# EAGLE library part DPDT_FOOTSWITCH (library switches)
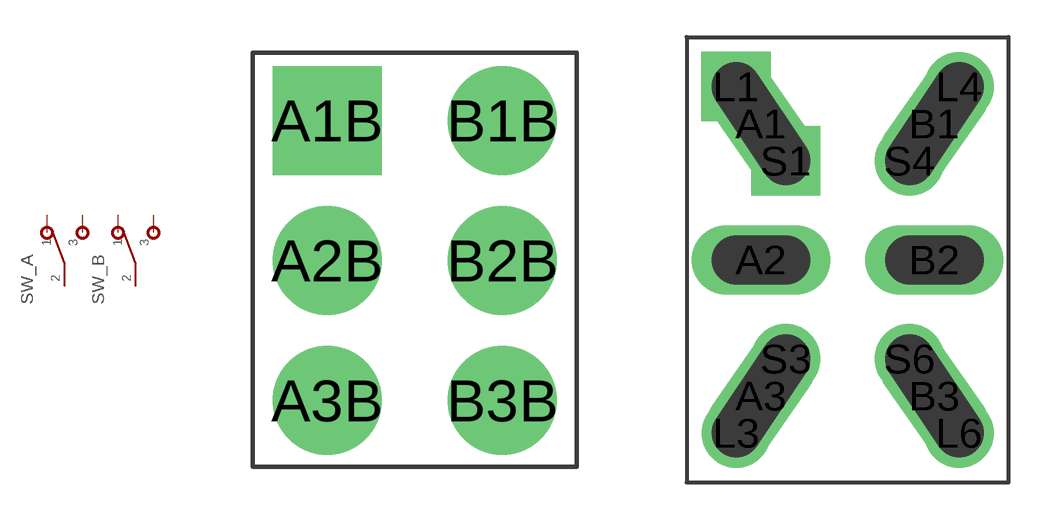
[diagram p8: symbol with the pads of DPDT_FSW2; footprints DPDT_FSW2, DPDT_FSW3]

Designator prefix SW; gates _A=SPDT _B=SPDT

## DPDT_FOOTSWITCHDPDT2  [DPDT_FSW2]
A1B  _A:1  pas
A2B  _A:2  pas
A3B  _A:3  pas
B1B  _B:1  pas
B2B  _B:2  pas
B3B  _B:3  pas

## DPDT_FOOTSWITCHDPDT3  [DPDT_FSW3]
A1  _A:1  pas
A2  _A:2  pas
A3  _A:3  pas
B1  _B:1  pas
B2  _B:2  pas
B3  _B:3  pas

## DPDT_FOOTSWITCH  [DPDT_FSW1]
Pads as for DPDT_FSW3

## Footprint DPDT_FSW2 (pad centres in mm)
drill 2.1 square: A1B -2.5,4
drill 2.1: A2B -2.5,0; A3B -2.5,-4; B1B 2.5,4; B2B 2.5,0; B3B 2.5,-4

## Footprint DPDT_FSW3 (pad centres in mm)
drill 0.25 pad 2.8 long: A1 -3.5,5.5; A2 -3.5,0; A3 -3.5,-5.5; B1 3.5,5.5; B2 3.5,0; B3 3.5,-5.5
drill 1 pad 2.8 square: L1 -4.5,7; S1 -2.5,4
drill 1 pad 2.8: L3 -4.5,-7; L4 4.5,7; L6 4.5,-7; S3 -2.5,-4; S4 2.5,4; S6 2.5,-4

## Footprint DPDT_FSW1 (pad centres in mm)
drill 2 square: A1 -4.5,7
drill 2: A2 -4.5,0; A3 -4.5,-7; B1 4.5,7; B2 4.5,0; B3 4.5,-7